# Altium footprint library Serial.PcbLib: 8 footprints
Each footprint in its own frame and in the unit in brackets; x right, y up, seen from the top. Pads: shape width x height; smd on the part's side, far side on the other; paste and mask are expansions set on the pad; w line width, h text height; cw(c..) or ccw(c..) is an arc to the next point about the centre after c.
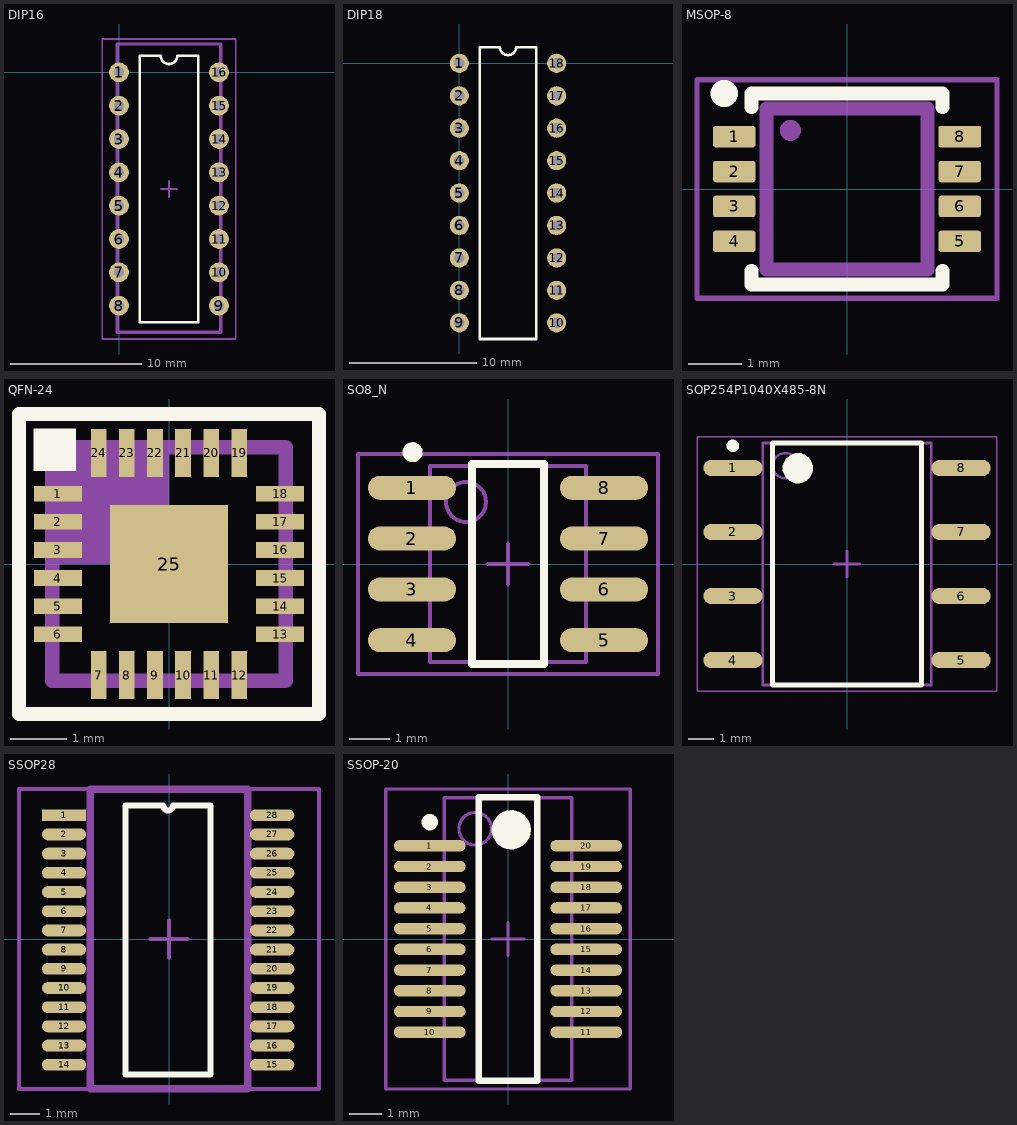
[diagram p0: the footprints below, top view; thin cyan lines are the x and y axes]

## DIP16 [mm]
pads (16):
  round 1.5 hole 0.8: 1(0,0) 2(0,-2.54) 3(0,-5.08) 4(0,-7.62) 5(0,-10.16) 6(0,-12.7) 7(0,-15.24) 8(0,-17.78) 9(7.62,-17.78) 10(7.62,-15.24) 11(7.62,-12.7) 12(7.62,-10.16) 13(7.62,-7.62) 14(7.62,-5.08) 15(7.62,-2.54) 16(7.62,0)
Top Overlay:
  lines w0.2: 1.585,-19.05 6.035,-19.05 6.035,1.27 4.445,1.27 cw(c3.81,1.27) 3.175,1.27 1.585,1.27 1.585,-19.05
Mechanical 13:
  lines w0.254: -0.127,-19.812 -0.127,2.159 7.747,2.159 7.747,-19.812 -0.127,-19.812
Mechanical 15:
  lines w0.127: 3.175,-8.89 4.445,-8.89 ; 3.81,-9.525 3.81,-8.255 ; -1.27,-20.32 -1.27,2.54 8.89,2.54 8.89,-20.32 -1.27,-20.32
Mechanical 17:
  text ".Designator" at 3.556,-4.699 h2
3D body "DIP16.STEP": height 5.15, standoff -2.49, extent -0.078,-19.839 7.792,2.161

## DIP18 [mm]
pads (18):
  round 1.5 hole 0.8: 1(0,0) 2(0,-2.54) 3(0,-5.08) 4(0,-7.62) 5(0,-10.16) 6(0,-12.7) 7(0,-15.24) 8(0,-17.78) 9(0,-20.32) 10(7.62,-20.32) 11(7.62,-17.78) 12(7.62,-15.24) 13(7.62,-12.7) 14(7.62,-10.16) 15(7.62,-7.62) 16(7.62,-5.08) 17(7.62,-2.54) 18(7.62,0)
Top Overlay:
  lines w0.2: 1.585,-21.59 6.035,-21.59 6.035,1.27 4.445,1.27 cw(c3.81,1.27) 3.175,1.27 1.585,1.27 1.585,-21.59
3D body "DIP18.STEP": height 4.57, standoff -3.81, extent -0.1,-21.844 7.72,1.396

## MSOP-8 [mm]
pads (8):
  rrect30% 0.8x0.4 smd: 1(-2.1,0.975) 2(-2.1,0.325) 3(-2.1,-0.325) 4(-2.1,-0.975) 5(2.1,-0.975) 6(2.1,-0.325) 7(2.1,0.325)
  rrect20% 0.8x0.4 smd: 8(2.1,0.975)
Top Overlay:
  circle w0.254: c-2.286,1.778 r0.127
  lines w0.254: -1.778,-1.524 -1.778,-1.778 1.778,-1.778 1.778,-1.524 ; -1.778,1.524 -1.778,1.778 1.778,1.778 1.778,1.524
Mechanical 13:
  circle w0.254: c-1.054,1.092 r0.068
  lines w0.254: -1.5,-1.5 -1.5,1.5 1.5,1.5 1.5,-1.5 -1.5,-1.5
Mechanical 15:
  lines w0.1: -2.794,-2.032 2.794,-2.032 2.794,2.032 -2.794,2.032 -2.794,-2.032
3D body "User Library-MO-187F.step": height 1.1, standoff 0, extent -2.459,-1.5 2.46,1.5

## QFN-24 [mm]
pads (25):
  rect 0.85x0.28 smd: 1(-1.975,1.25) 2(-1.975,0.75) 3(-1.975,0.25) 4(-1.975,-0.25) 5(-1.975,-0.75) 6(-1.975,-1.25) 13(1.975,-1.25) 14(1.975,-0.75) 15(1.975,-0.25) 16(1.975,0.25) 17(1.975,0.75) 18(1.975,1.25)
  rect 0.28x0.85 smd: 7(-1.25,-1.975) 8(-0.75,-1.975) 9(-0.25,-1.975) 10(0.25,-1.975) 11(0.75,-1.975) 12(1.25,-1.975) 19(1.25,1.975) 20(0.75,1.975) 21(0.25,1.975) 22(-0.25,1.975) 23(-0.75,1.975) 24(-1.25,1.975)
  rect 2.1x2.1 smd: 25(0,0)
Top Overlay:
  rectangle: -2.413,1.651 -1.651,2.413
  lines w0.254: -2.667,-2.667 2.667,-2.667 2.667,2.667 -2.667,2.667 -2.667,-2.667
Mechanical 13:
  rectangle: -2.075,0 0,2.075
  lines w0.254: -2.075,-2.075 -2.075,2.075 2.075,2.075 2.075,-2.075 -2.075,-2.075
3D body "User Library-QFN24_4x4.STEP": height 1, standoff 0, extent -2.01,-2.01 2.01,2.01

## SO8_N [mm] "8-Pin Small Outline Integrated Circuit 1.27 mm Pitch, IPC Medium Density"
height 1.75
pads (8):
  oval 2.2x0.6 smd: 1(-2.4,1.905) 2(-2.4,0.635) 3(-2.4,-0.635) 4(-2.4,-1.905) 5(2.4,-1.905) 6(2.4,-0.635) 7(2.4,0.635) 8(2.4,1.905)
Top Overlay:
  circle w0.25: c-2.386,2.794 r0.125
  lines w0.2: -0.9,-2.5 0.9,-2.5 0.9,2.5 -0.9,2.5 -0.9,-2.5
Mechanical 13:
  circle w0.1: c-1.05,1.55 r0.5
  lines w0.1: -1.95,-2.45 1.95,-2.45 1.95,2.45 -1.95,2.45 -1.95,-2.45
Mechanical 15:
  lines w0.1: -0.5,0 0.5,0 ; 0,-0.5 0,0.5 ; -3.75,-2.75 3.75,-2.75 3.75,2.75 -3.75,2.75 -3.75,-2.75
3D body: height 1.75, standoff 0, extent -1.95,-2.45 1.95,2.45
3D body "SO8.step": height 1.45, standoff 0, extent -2.889,-2.438 2.889,2.464

## SOP254P1040X485-8N [mm] "SOP, 8-Leads, Body 9,50x6,62mm, Pitch 2,54mm, IPC Medium Density"
height 4.85
pads (8):
  oval 2.35x0.65 smd: 1(-4.525,3.81) 2(-4.525,1.27) 3(-4.525,-1.27) 4(-4.525,-3.81) 5(4.525,-3.81) 6(4.525,-1.27) 7(4.525,1.27) 8(4.525,3.81)
Top Overlay:
  circle w0.6: c-1.95,3.8 r0.3
  circle w0.25: c-4.525,4.685 r0.125
  lines w0.2: -2.95,-4.8 2.95,-4.8 2.95,4.8 -2.95,4.8 -2.95,-4.8
Mechanical 13:
  circle w0.1: c-2.45,3.9 r0.5
  lines w0.1: -3.35,-4.8 3.35,-4.8 3.35,4.8 -3.35,4.8 -3.35,-4.8
Mechanical 15:
  lines w0.05: -5.95,-5.05 5.95,-5.05 5.95,5.05 -5.95,5.05 -5.95,-5.05
  lines w0.1: -0.5,0 0.5,0 ; 0,-0.5 0,0.5
3D body: height 4.85, standoff 0.38, extent -3.35,-4.8 3.35,4.8

## SSOP28 [mm]
pads (28):
  rect 1.5x0.4 smd: 1(-3.556,4.191)
  oval 1.5x0.4 smd: 2(-3.556,3.541) 3(-3.556,2.891) 4(-3.556,2.241) 5(-3.556,1.591) 6(-3.556,0.941) 7(-3.556,0.291) 8(-3.556,-0.359) 9(-3.556,-1.009) 10(-3.556,-1.659) 11(-3.556,-2.309) 12(-3.556,-2.959) 13(-3.556,-3.609) 14(-3.556,-4.259) 15(3.494,-4.259) 16(3.494,-3.609) 17(3.494,-2.959) 18(3.494,-2.309) 19(3.494,-1.659) 20(3.494,-1.009) 21(3.494,-0.359) 22(3.494,0.291) 23(3.494,0.941) 24(3.494,1.591) 25(3.494,2.241) 26(3.494,2.891) 27(3.494,3.541) 28(3.494,4.191)
Top Overlay:
  lines w0.2: -1.471,-4.584 1.409,-4.584 1.409,4.516 0.131,4.516 cw(c-0.031,4.516) -0.193,4.516 -1.471,4.516 -1.471,-4.584
Mechanical 13:
  lines w0.254: -2.667,-5.08 2.667,-5.08 2.667,5.08 -2.667,5.08 -2.667,-5.08
Mechanical 15:
  lines w0.127: -0.635,0 0.635,0 ; 0,-0.635 0,0.635 ; -5.08,-5.08 -5.08,5.08 5.08,5.08 5.08,-5.08 -5.08,-5.08
Mechanical 17:
  text ".Designator" at -1.016,5.08 h2
3D body "SSOP-28.step": height 2.16, standoff 0, extent -3.878,-5.207 3.878,5.123

## SSOP-20 [mm] "SOP, 20-Leads, Body 8,7x3,9mm (max), Pitch 0,63mm, IPC Medium Density"
height 1.626
pads (20):
  oval 2.2x0.35 smd: 1(-2.4,2.857) 2(-2.4,2.222) 3(-2.4,1.587) 4(-2.4,0.953) 5(-2.4,0.318) 6(-2.4,-0.318) 7(-2.4,-0.953) 8(-2.4,-1.587) 9(-2.4,-2.222) 10(-2.4,-2.857) 11(2.4,-2.857) 12(2.4,-2.222) 13(2.4,-1.587) 14(2.4,-0.953) 15(2.4,-0.318) 16(2.4,0.318) 17(2.4,0.953) 18(2.4,1.587) 19(2.4,2.222) 20(2.4,2.857)
Top Overlay:
  circle w0.6: c0.1,3.35 r0.3
  circle w0.25: c-2.4,3.582 r0.125
  lines w0.2: -0.9,-4.35 0.9,-4.35 0.9,4.35 -0.9,4.35 -0.9,-4.35
Mechanical 13:
  circle w0.1: c-1.005,3.38 r0.5
  lines w0.1: -1.955,-4.33 1.955,-4.33 1.955,4.33 -1.955,4.33 -1.955,-4.33
Mechanical 15:
  lines w0.1: -0.5,0 0.5,0 ; 0,-0.5 0,0.5 ; -3.75,-4.6 3.75,-4.6 3.75,4.6 -3.75,4.6 -3.75,-4.6
3D body: height 1.63, standoff 0.15, extent -1.955,-4.33 1.955,4.33